# EAGLE library part BIG8X8 (library jason_eagle6)
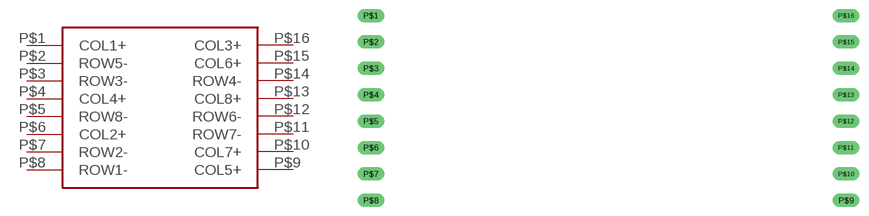
[diagram p41: symbol with the pads of BIG8X8; footprint BIG8X8]

Designator prefix -

## BIG8X8  [BIG8X8]
P$1  COL1+
P$2  ROW5-
P$3  ROW3-
P$4  COL4+
P$5  ROW8-
P$6  COL2+
P$7  ROW2-
P$8  ROW1-
P$9  COL5+
P$10  COL7+
P$11  ROW7-
P$12  ROW6-
P$13  COL8+
P$14  ROW4-
P$15  COL6+
P$16  COL3+

## Footprint BIG8X8 (pad centres in mm)
drill 0.8 long: P$1 -22.86,8.89; P$2 -22.86,6.35; P$3 -22.86,3.81; P$4 -22.86,1.27; P$5 -22.86,-1.27; P$6 -22.86,-3.81; P$7 -22.86,-6.35; P$8 -22.86,-8.89; P$9 22.86,-8.89; P$10 22.86,-6.35; P$11 22.86,-3.81; P$12 22.86,-1.27; P$13 22.86,1.27; P$14 22.86,3.81; P$15 22.86,6.35; P$16 22.86,8.89